# Altium integrated library TI Power Management Step-Down Regulator.IntLib: 565 symbols (part 16 of 33)
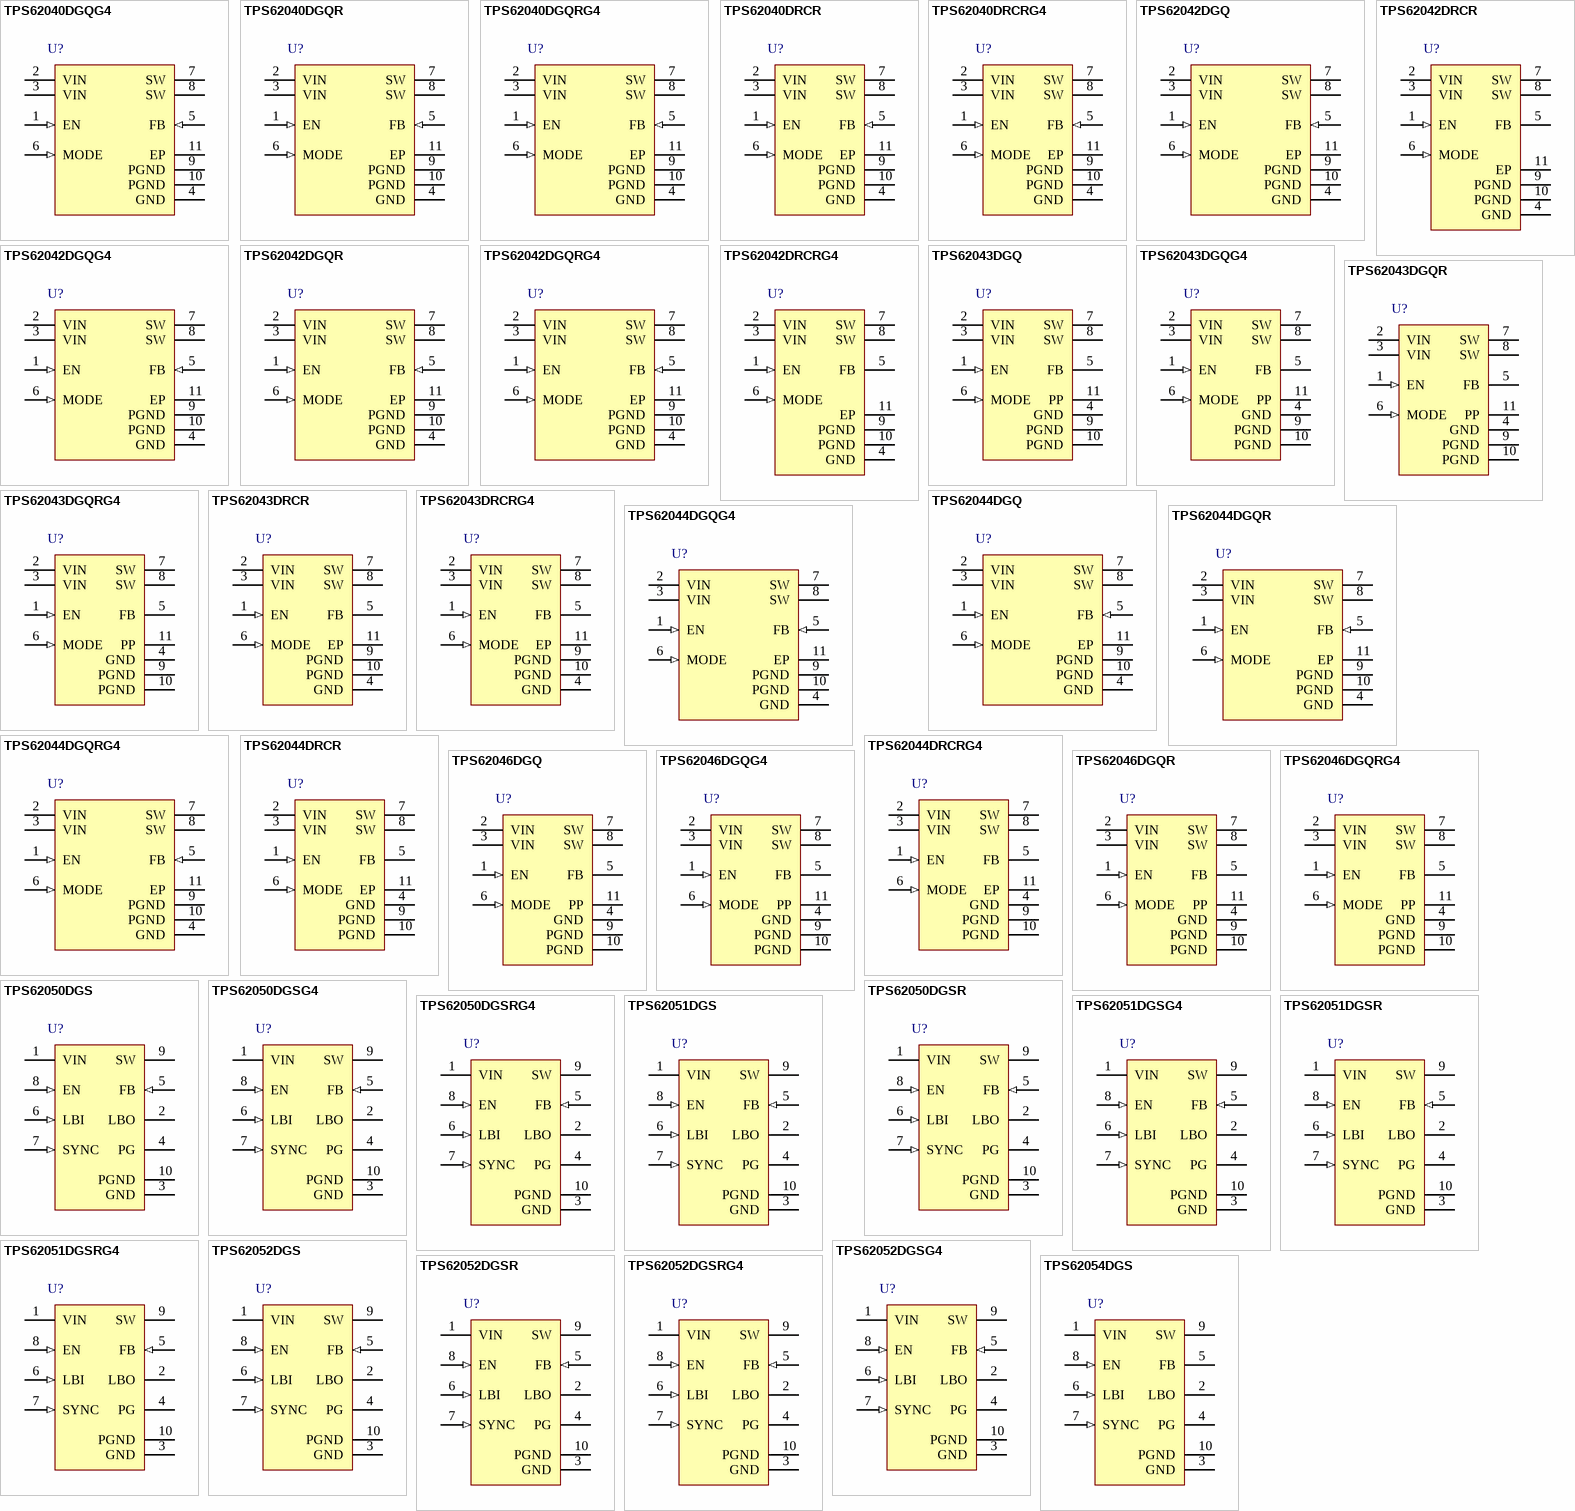
[diagram p34: symbols TPS62040DGQG4 to TPS62054DGS]

## TPS62043DRCR
designator U?
Buck Step Down Regulator with 2.5 to 6 V Input and 1.6 V Output, -40 to 85 degC, 10-Pin SON (DRC), Green (RoHS & no Sb/Br); Manufacturer: Texas Instruments; PartNumber: TPS62043DRCR; Duty Cycle(Max)(%): 100; Iout(Max)(A): 1.2; Iq(Typ)(mA): 0.018; Preset Vout(V): 1.6; Rating: Catalog; Regulated Outputs(#): 1; SubFamily: Step-Down Regulator; Switch Current Limit(Typ)(A): 2; Vin(Max)(V): 6; Vin(Min)(V): 2.5; DatasheetVersion: SLVS463B; PackageVersion: revL, Sep-2011; PackageReference: DRC10-2400X1650TP; PackageDescription: 10-Pin Plastic Small Outline No-Lead, 3 x 3 x 1 mm Body, 0.5 mm Pitch, Exposed Pad; Supplier 1: Digi-Key; Supplier Part Number 1: 296-15900-2-ND; Eco-Plan: Green (RoHS & no Sb/Br); Topology: Buck; Vout(Max)(V): 1.6; Vout(Min)(V): 1.6; Mounting Technology: Surface Mount; ComponentLink1Description: Datasheet; ComponentLink1URL: http://www.ti.com/general/docs/lit/getliterature.tsp?genericPartNumber=TPS62043&fileType=pdf; ComponentLink2Description: Package Specification; ComponentLink2URL: http://www.ti.com/litv/pdf/mpds117k; ComponentLink3Description: URL Link1; ComponentLink3URL: Samples URL:http://www.ti.com/product/tps62043#samples
footprint DRC10-2400X1650TP (SON, 10-Leads, Body 3x3mm, Pitch 0.5mm, Thermal Pad 2.4x1.65mm, TI Recommended)
pins: 1 EN (in) "Enable. Pulling EN to ground forces the device into shutdown mode. Pulling EN to VI enables the device. EN should not be left floating and must be terminated.", 2 VIN (power) "Supply voltage input", 3 VIN (power) "Supply voltage input", 4 GND (power), 5 FB "Feedback pin. Connect FB directly to the output if the fixed output voltage version is used. For the adjustable version an external resistor divider is connected to this pin. The internal voltage divider is disabled for the (See Datasheet)", 6 MODE (in) "Pulling the MODE pin high allows the device to be forced into fixed frequency operation. Pulling the MODE pin to low enables the power save mode where the device operates in fixed frequency PWM mode at high load currents and (See Datasheet)", 7 SW (power) "This is the switch pin of the converter and is connected to the drain of the internal power MOSFETs", 8 SW (power) "This is the switch pin of the converter and is connected to the drain of the internal power MOSFETs", 9 PGND (power) "Power ground", 10 PGND (power) "Power ground", 11 EP "Exposed Thermal Pad"

## TPS62043DRCRG4
designator U?
Buck Step Down Regulator with 2.5 to 6 V Input and 1.6 V Output, -40 to 85 degC, 10-Pin SON (DRC), Green (RoHS & no Sb/Br); Manufacturer: Texas Instruments; PartNumber: TPS62043DRCRG4; Duty Cycle(Max)(%): 100; Iout(Max)(A): 1.2; Iq(Typ)(mA): 0.018; Preset Vout(V): 1.6; Rating: Catalog; Regulated Outputs(#): 1; SubFamily: Step-Down Regulator; Switch Current Limit(Typ)(A): 2; Vin(Max)(V): 6; Vin(Min)(V): 2.5; DatasheetVersion: SLVS463B; PackageVersion: revL, Sep-2011; PackageReference: DRC10-2400X1650TP; PackageDescription: 10-Pin Plastic Small Outline No-Lead, 3 x 3 x 1 mm Body, 0.5 mm Pitch, Exposed Pad; Supplier 1: Digi-Key; Supplier Part Number 1: TPS62043DRCRG4-ND; Eco-Plan: Green (RoHS & no Sb/Br); Topology: Buck; Vout(Max)(V): 1.6; Vout(Min)(V): 1.6; Mounting Technology: Surface Mount; ComponentLink1Description: Datasheet; ComponentLink1URL: http://www.ti.com/general/docs/lit/getliterature.tsp?genericPartNumber=TPS62043&fileType=pdf; ComponentLink2Description: Package Specification; ComponentLink2URL: http://www.ti.com/litv/pdf/mpds117k; ComponentLink3Description: URL Link1; ComponentLink3URL: Samples URL:http://www.ti.com/product/tps54611#samples
footprint DRC10-2400X1650TP (SON, 10-Leads, Body 3x3mm, Pitch 0.5mm, Thermal Pad 2.4x1.65mm, TI Recommended)
pins: 1 EN (in) "Enable. Pulling EN to ground forces the device into shutdown mode. Pulling EN to VI enables the device. EN should not be left floating and must be terminated.", 2 VIN (power) "Supply voltage input", 3 VIN (power) "Supply voltage input", 4 GND (power), 5 FB "Feedback pin. Connect FB directly to the output if the fixed output voltage version is used. For the adjustable version an external resistor divider is connected to this pin. The internal voltage divider is disabled for the (See Datasheet)", 6 MODE (in) "Pulling the MODE pin high allows the device to be forced into fixed frequency operation. Pulling the MODE pin to low enables the power save mode where the device operates in fixed frequency PWM mode at high load currents and (See Datasheet)", 7 SW (power) "This is the switch pin of the converter and is connected to the drain of the internal power MOSFETs", 8 SW (power) "This is the switch pin of the converter and is connected to the drain of the internal power MOSFETs", 9 PGND (power) "Power ground", 10 PGND (power) "Power ground", 11 EP "Exposed Thermal Pad"

## TPS62044DGQ
designator U?
Buck Step Down Regulator with 2.5 to 6 V Input and 1.8 V Output, -40 to 85 degC, 10-Pin MSOP-PowerPAD (DGQ), Green (RoHS & no Sb/Br); Manufacturer: Texas Instruments; PartNumber: TPS62044DGQ; Duty Cycle(Max)(%): 100; Iout(Max)(A): 1.2; Iq(Typ)(mA): 0.018; Preset Vout(V): 1.8; Rating: Catalog; Regulated Outputs(#): 1; SubFamily: Step-Down Regulator; Switch Current Limit(Typ)(A): 2; Vin(Max)(V): 6; Vin(Min)(V): 2.5; DatasheetVersion: SLVS463B; PackageVersion: revF, Nov-2011; PackageReference: DGQ10-1675X1445TP; PackageDescription: 10-Pin PowerPAD Plastic Small Outline 0.5 mm Pitch, Exposed Pad; Supplier 1: Digi-Key; Supplier Part Number 1: 296-34636-5-ND; Eco-Plan: Green (RoHS & no Sb/Br); Topology: Buck; Vout(Max)(V): 1.8; Vout(Min)(V): 1.8; Mounting Technology: Surface Mount; Code_JEDEC: MO-187-BA-T; ComponentLink1Description: Datasheet; ComponentLink1URL: http://www.ti.com/general/docs/lit/getliterature.tsp?genericPartNumber=TPS62044&fileType=pdf; ComponentLink2Description: Package Specification; ComponentLink2URL: http://www.ti.com/lit/ml/mpds043e/mpds043e.pdf; ComponentLink3Description: URL Link1; ComponentLink3URL: Samples URL:http://www.ti.com/product/tps62044#samples
footprint DGQ10-1675X1445TP_N (TSSOP, 10-Leads, Body 3x3mm, Pitch 0.5mm, Thermal Pad 1.88x1.57mm, IPC Medium Density)
footprint DGQ10-1675X1445TP_L (TSSOP, 10-Leads, Body 3x3mm, Pitch 0.5mm, Thermal Pad 1.88x1.57mm, IPC High Density)
footprint DGQ10-1675X1445TP_M (TSSOP, 10-Leads, Body 3x3mm, Pitch 0.5mm, Thermal Pad 1.88x1.57mm, IPC Low Density)
pins: 1 EN (in) "Enable. Pulling EN to ground forces the device into shutdown mode. Pulling EN to VI enables the device. EN should not be left floating and must be terminated.", 2 VIN (power) "Supply voltage input", 3 VIN (power) "Supply voltage input", 4 GND (power) "Analog ground", 5 FB (in) "Feedback pin. Connect FB directly to the output if the fixed output voltage version is used. For the adjustable version an external resistor divider is connected to this pin. The internal voltage divider is disabled for the (See Datasheet)", 6 MODE (in) "Pulling the MODE pin high allows the device to be forced into fixed frequency operation. Pulling the MODE pin to low enables the power save mode where the device operates in fixed frequency PWM mode at high load currents and (See Datasheet)", 7 SW (power) "This is the switch pin of the converter and is connected to the drain of the internal power MOSFETs", 8 SW (power) "This is the switch pin of the converter and is connected to the drain of the internal power MOSFETs", 9 PGND (power) "Power ground", 10 PGND (power) "Power ground", 11 EP (power) "Exposed Thermal Pad"

## TPS62044DGQG4
designator U?
Buck Step Down Regulator with 2.5 to 6 V Input and 1.8 V Output, -40 to 85 degC, 10-Pin MSOP-PowerPAD (DGQ), Green (RoHS & no Sb/Br); Manufacturer: Texas Instruments; PartNumber: TPS62044DGQG4; Duty Cycle(Max)(%): 100; Iout(Max)(A): 1.2; Iq(Typ)(mA): 0.018; Preset Vout(V): 1.8; Rating: Catalog; Regulated Outputs(#): 1; SubFamily: Step-Down Regulator; Switch Current Limit(Typ)(A): 2; Vin(Max)(V): 6; Vin(Min)(V): 2.5; DatasheetVersion: SLVS463B; PackageVersion: revF, Nov-2011; PackageReference: DGQ10-1675X1445TP; PackageDescription: 10-Pin PowerPAD Plastic Small Outline 0.5 mm Pitch, Exposed Pad; Supplier 1: Digi-Key; Supplier Part Number 1: TPS62044DGQG4-ND; Eco-Plan: Green (RoHS & no Sb/Br); Topology: Buck; Vout(Max)(V): 1.8; Vout(Min)(V): 1.8; Mounting Technology: Surface Mount; Code_JEDEC: MO-187-BA-T; ComponentLink1Description: Datasheet; ComponentLink1URL: http://www.ti.com/general/docs/lit/getliterature.tsp?genericPartNumber=TPS62044&fileType=pdf; ComponentLink2Description: Package Specification; ComponentLink2URL: http://www.ti.com/lit/ml/mpds043e/mpds043e.pdf; ComponentLink3Description: URL Link1; ComponentLink3URL: Samples URL:http://www.ti.com/product/tps62044#samples
footprint DGQ10-1675X1445TP_N (TSSOP, 10-Leads, Body 3x3mm, Pitch 0.5mm, Thermal Pad 1.88x1.57mm, IPC Medium Density)
footprint DGQ10-1675X1445TP_L (TSSOP, 10-Leads, Body 3x3mm, Pitch 0.5mm, Thermal Pad 1.88x1.57mm, IPC High Density)
footprint DGQ10-1675X1445TP_M (TSSOP, 10-Leads, Body 3x3mm, Pitch 0.5mm, Thermal Pad 1.88x1.57mm, IPC Low Density)
pins: 1 EN (in) "Enable. Pulling EN to ground forces the device into shutdown mode. Pulling EN to VI enables the device. EN should not be left floating and must be terminated.", 2 VIN (power) "Supply voltage input", 3 VIN (power) "Supply voltage input", 4 GND (power) "Analog ground", 5 FB (in) "Feedback pin. Connect FB directly to the output if the fixed output voltage version is used. For the adjustable version an external resistor divider is connected to this pin. The internal voltage divider is disabled for the (See Datasheet)", 6 MODE (in) "Pulling the MODE pin high allows the device to be forced into fixed frequency operation. Pulling the MODE pin to low enables the power save mode where the device operates in fixed frequency PWM mode at high load currents and (See Datasheet)", 7 SW (power) "This is the switch pin of the converter and is connected to the drain of the internal power MOSFETs", 8 SW (power) "This is the switch pin of the converter and is connected to the drain of the internal power MOSFETs", 9 PGND (power) "Power ground", 10 PGND (power) "Power ground", 11 EP (power) "Exposed Thermal Pad"

## TPS62044DGQR
designator U?
Buck Step Down Regulator with 2.5 to 6 V Input and 1.8 V Output, -40 to 85 degC, 10-Pin MSOP-PowerPAD (DGQ), Green (RoHS & no Sb/Br); Manufacturer: Texas Instruments; PartNumber: TPS62044DGQR; Duty Cycle(Max)(%): 100; Iout(Max)(A): 1.2; Iq(Typ)(mA): 0.018; Preset Vout(V): 1.8; Rating: Catalog; Regulated Outputs(#): 1; SubFamily: Step-Down Regulator; Switch Current Limit(Typ)(A): 2; Vin(Max)(V): 6; Vin(Min)(V): 2.5; DatasheetVersion: SLVS463B; PackageVersion: revF, Nov-2011; PackageReference: DGQ10-1675X1445TP; PackageDescription: 10-Pin PowerPAD Plastic Small Outline 0.5 mm Pitch, Exposed Pad; Supplier 1: Digi-Key; Supplier Part Number 1: 296-15222-2-ND; Eco-Plan: Green (RoHS & no Sb/Br); Topology: Buck; Vout(Max)(V): 1.8; Vout(Min)(V): 1.8; Mounting Technology: Surface Mount; Code_JEDEC: MO-187-BA-T; ComponentLink1Description: Datasheet; ComponentLink1URL: http://www.ti.com/general/docs/lit/getliterature.tsp?genericPartNumber=TPS62044&fileType=pdf; ComponentLink2Description: Package Specification; ComponentLink2URL: http://www.ti.com/lit/ml/mpds043e/mpds043e.pdf; ComponentLink3Description: URL Link1; ComponentLink3URL: Samples URL:http://www.ti.com/product/tps62044#samples
footprint DGQ10-1675X1445TP_N (TSSOP, 10-Leads, Body 3x3mm, Pitch 0.5mm, Thermal Pad 1.88x1.57mm, IPC Medium Density)
footprint DGQ10-1675X1445TP_L (TSSOP, 10-Leads, Body 3x3mm, Pitch 0.5mm, Thermal Pad 1.88x1.57mm, IPC High Density)
footprint DGQ10-1675X1445TP_M (TSSOP, 10-Leads, Body 3x3mm, Pitch 0.5mm, Thermal Pad 1.88x1.57mm, IPC Low Density)
pins: 1 EN (in) "Enable. Pulling EN to ground forces the device into shutdown mode. Pulling EN to VI enables the device. EN should not be left floating and must be terminated.", 2 VIN (power) "Supply voltage input", 3 VIN (power) "Supply voltage input", 4 GND (power) "Analog ground", 5 FB (in) "Feedback pin. Connect FB directly to the output if the fixed output voltage version is used. For the adjustable version an external resistor divider is connected to this pin. The internal voltage divider is disabled for the (See Datasheet)", 6 MODE (in) "Pulling the MODE pin high allows the device to be forced into fixed frequency operation. Pulling the MODE pin to low enables the power save mode where the device operates in fixed frequency PWM mode at high load currents and (See Datasheet)", 7 SW (power) "This is the switch pin of the converter and is connected to the drain of the internal power MOSFETs", 8 SW (power) "This is the switch pin of the converter and is connected to the drain of the internal power MOSFETs", 9 PGND (power) "Power ground", 10 PGND (power) "Power ground", 11 EP (power) "Exposed Thermal Pad"

## TPS62044DGQRG4
designator U?
Buck Step Down Regulator with 2.5 to 6 V Input and 1.8 V Output, -40 to 85 degC, 10-Pin MSOP-PowerPAD (DGQ), Green (RoHS & no Sb/Br); Manufacturer: Texas Instruments; PartNumber: TPS62044DGQRG4; Duty Cycle(Max)(%): 100; Iout(Max)(A): 1.2; Iq(Typ)(mA): 0.018; Preset Vout(V): 1.8; Rating: Catalog; Regulated Outputs(#): 1; SubFamily: Step-Down Regulator; Switch Current Limit(Typ)(A): 2; Vin(Max)(V): 6; Vin(Min)(V): 2.5; DatasheetVersion: SLVS463B; PackageVersion: revF, Nov-2011; PackageReference: DGQ10-1675X1445TP; PackageDescription: 10-Pin PowerPAD Plastic Small Outline 0.5 mm Pitch, Exposed Pad; Supplier 1: Digi-Key; Supplier Part Number 1: TPS62044DGQRG4-ND; Eco-Plan: Green (RoHS & no Sb/Br); Topology: Buck; Vout(Max)(V): 1.8; Vout(Min)(V): 1.8; Mounting Technology: Surface Mount; Code_JEDEC: MO-187-BA-T; ComponentLink1Description: Datasheet; ComponentLink1URL: http://www.ti.com/general/docs/lit/getliterature.tsp?genericPartNumber=TPS62044&fileType=pdf; ComponentLink2Description: Package Specification; ComponentLink2URL: http://www.ti.com/lit/ml/mpds043e/mpds043e.pdf; ComponentLink3Description: URL Link1; ComponentLink3URL: Samples URL:http://www.ti.com/product/tps62044#samples
footprint DGQ10-1675X1445TP_N (TSSOP, 10-Leads, Body 3x3mm, Pitch 0.5mm, Thermal Pad 1.88x1.57mm, IPC Medium Density)
footprint DGQ10-1675X1445TP_L (TSSOP, 10-Leads, Body 3x3mm, Pitch 0.5mm, Thermal Pad 1.88x1.57mm, IPC High Density)
footprint DGQ10-1675X1445TP_M (TSSOP, 10-Leads, Body 3x3mm, Pitch 0.5mm, Thermal Pad 1.88x1.57mm, IPC Low Density)
pins: 1 EN (in) "Enable. Pulling EN to ground forces the device into shutdown mode. Pulling EN to VI enables the device. EN should not be left floating and must be terminated.", 2 VIN (power) "Supply voltage input", 3 VIN (power) "Supply voltage input", 4 GND (power) "Analog ground", 5 FB (in) "Feedback pin. Connect FB directly to the output if the fixed output voltage version is used. For the adjustable version an external resistor divider is connected to this pin. The internal voltage divider is disabled for the (See Datasheet)", 6 MODE (in) "Pulling the MODE pin high allows the device to be forced into fixed frequency operation. Pulling the MODE pin to low enables the power save mode where the device operates in fixed frequency PWM mode at high load currents and (See Datasheet)", 7 SW (power) "This is the switch pin of the converter and is connected to the drain of the internal power MOSFETs", 8 SW (power) "This is the switch pin of the converter and is connected to the drain of the internal power MOSFETs", 9 PGND (power) "Power ground", 10 PGND (power) "Power ground", 11 EP (power) "Exposed Thermal Pad"

## TPS62044DRCR
designator U?
Buck Step Down Regulator with 2.5 to 6 V Input and 1.8 V Output, -40 to 85 degC, 10-Pin SON (DRC), Green (RoHS & no Sb/Br); Manufacturer: Texas Instruments; PartNumber: TPS62044DRCR; Duty Cycle(Max)(%): 100; Iout(Max)(A): 1.2; Iq(Typ)(mA): 0.018; Preset Vout(V): 1.8; Rating: Catalog; Regulated Outputs(#): 1; SubFamily: Step-Down Regulator; Switch Current Limit(Typ)(A): 2; Vin(Max)(V): 6; Vin(Min)(V): 2.5; DatasheetVersion: SLVS463B; PackageVersion: revL, Sep-2011; PackageReference: DRC10-2400X1650TP; PackageDescription: 10-Pin Plastic Small Outline No-Lead, 3 x 3 x 1 mm Body, 0.5 mm Pitch, Exposed Pad; Supplier 1: Digi-Key; Supplier Part Number 1: 296-15901-2-ND; Eco-Plan: Green (RoHS & no Sb/Br); Topology: Buck; Vout(Max)(V): 1.8; Vout(Min)(V): 1.8; Mounting Technology: Surface Mount; ComponentLink1Description: Datasheet; ComponentLink1URL: http://www.ti.com/general/docs/lit/getliterature.tsp?genericPartNumber=TPS62044&fileType=pdf; ComponentLink2Description: Package Specification; ComponentLink2URL: http://www.ti.com/litv/pdf/mpds117k; ComponentLink3Description: URL Link1; ComponentLink3URL: Samples URL:http://www.ti.com/product/tps62044#samples
footprint DRC10-2400X1650TP (SON, 10-Leads, Body 3x3mm, Pitch 0.5mm, Thermal Pad 2.4x1.65mm, TI Recommended)
pins: 1 EN (in) "Enable. Pulling EN to ground forces the device into shutdown mode. Pulling EN to VI enables the device. EN should not be left floating and must be terminated.", 2 VIN (power) "Supply voltage input.", 3 VIN (power) "Supply voltage input.", 4 GND (power) "Analog ground", 5 FB "Feedback pin. Connect FB directly to the output if the fixed output voltage version is used. For the adjustable version an external resistor divider is connected to this pin. The internal voltage divider is disabled for the (See Datasheet)", 6 MODE (in) "Pulling the MODE pin high allows the device to be forced into fixed frequency operation. Pulling the MODE pin to low enables the power save mode where the device operates in fixed frequency PWM mode at high load currents and (See Datasheet)", 7 SW (power) "This is the switch pin of the converter and is connected to the drain of the internal power MOSFETs.", 8 SW (power) "This is the switch pin of the converter and is connected to the drain of the internal power MOSFETs.", 9 PGND (power) "Power ground.", 10 PGND (power) "Power ground.", 11 EP "Exposed thermal pad"

## TPS62044DRCRG4
designator U?
Buck Step Down Regulator with 2.5 to 6 V Input and 1.8 V Output, -40 to 85 degC, 10-Pin SON (DRC), Green (RoHS & no Sb/Br); Manufacturer: Texas Instruments; PartNumber: TPS62044DRCRG4; Duty Cycle(Max)(%): 100; Iout(Max)(A): 1.2; Iq(Typ)(mA): 0.018; Preset Vout(V): 1.8; Rating: Catalog; Regulated Outputs(#): 1; SubFamily: Step-Down Regulator; Switch Current Limit(Typ)(A): 2; Vin(Max)(V): 6; Vin(Min)(V): 2.5; DatasheetVersion: SLVS463B; PackageVersion: revL, Sep-2011; PackageReference: DRC10-2400X1650TP; PackageDescription: 10-Pin Plastic Small Outline No-Lead, 3 x 3 x 1 mm Body, 0.5 mm Pitch, Exposed Pad; Supplier 1: Digi-Key; Supplier Part Number 1: TPS62044DRCRG4-ND; Eco-Plan: Green (RoHS & no Sb/Br); Topology: Buck; Vout(Max)(V): 1.8; Vout(Min)(V): 1.8; Mounting Technology: Surface Mount; ComponentLink1Description: Datasheet; ComponentLink1URL: http://www.ti.com/general/docs/lit/getliterature.tsp?genericPartNumber=TPS62044&fileType=pdf; ComponentLink2Description: Package Specification; ComponentLink2URL: http://www.ti.com/litv/pdf/mpds117k; ComponentLink3Description: URL Link1; ComponentLink3URL: Samples URL:http://www.ti.com/product/tps54611#samples
footprint DRC10-2400X1650TP (SON, 10-Leads, Body 3x3mm, Pitch 0.5mm, Thermal Pad 2.4x1.65mm, TI Recommended)
pins: 1 EN (in) "Enable. Pulling EN to ground forces the device into shutdown mode. Pulling EN to VI enables the device. EN should not be left floating and must be terminated.", 2 VIN (power) "Supply voltage input.", 3 VIN (power) "Supply voltage input.", 4 GND (power) "Analog ground", 5 FB "Feedback pin. Connect FB directly to the output if the fixed output voltage version is used. For the adjustable version an external resistor divider is connected to this pin. The internal voltage divider is disabled for the (See Datasheet)", 6 MODE (in) "Pulling the MODE pin high allows the device to be forced into fixed frequency operation. Pulling the MODE pin to low enables the power save mode where the device operates in fixed frequency PWM mode at high load currents and (See Datasheet)", 7 SW (power) "This is the switch pin of the converter and is connected to the drain of the internal power MOSFETs.", 8 SW (power) "This is the switch pin of the converter and is connected to the drain of the internal power MOSFETs.", 9 PGND (power) "Power ground.", 10 PGND (power) "Power ground.", 11 EP "Exposed thermal pad"

## TPS62046DGQ
designator U?
Buck Step Down Regulator with 2.5 to 6 V Input and 3.3 V Output, -40 to 85 degC, 10-Pin MSOP-PowerPAD (DGQ), Green (RoHS & no Sb/Br); Manufacturer: Texas Instruments; PartNumber: TPS62046DGQ; Duty Cycle(Max)(%): 100; Iout(Max)(A): 1.2; Iq(Typ)(mA): 0.018; Preset Vout(V): 3.3; Rating: Catalog; Regulated Outputs(#): 1; SubFamily: Step-Down Regulator; Switch Current Limit(Typ)(A): 2; Synchronous Rectification: TRUE; Vin(Max)(V): 6; Vin(Min)(V): 2.5; DatasheetVersion: SLVS463B; PackageVersion: revF, Nov-2011; PackageReference: DGQ10-1675X1445TP; PackageDescription: 10-Pin PowerPAD Plastic Small Outline 0.5 mm Pitch, Exposed Pad; Supplier 1: Digi-Key; Supplier Part Number 1: 296-27023-5-ND; Eco-Plan: Green (RoHS & no Sb/Br); Topology: Buck; Vout(Max)(V): 3.3; Vout(Min)(V): 3.3; Mounting Technology: Surface Mount; Code_JEDEC: MO-187-BA-T; ComponentLink1Description: Datasheet; ComponentLink1URL: http://www.ti.com/general/docs/lit/getliterature.tsp?genericPartNumber=TPS62046&fileType=pdf; ComponentLink2Description: Package Specification; ComponentLink2URL: http://www.ti.com/lit/ml/mpds043e/mpds043e.pdf; ComponentLink3Description: URL Link1; ComponentLink3URL: Samples URL:http://www.ti.com/product/tps62046#samples
footprint DGQ10-1675X1445TP_N (TSSOP, 10-Leads, Body 3x3mm, Pitch 0.5mm, Thermal Pad 1.88x1.57mm, IPC Medium Density)
footprint DGQ10-1675X1445TP_L (TSSOP, 10-Leads, Body 3x3mm, Pitch 0.5mm, Thermal Pad 1.88x1.57mm, IPC High Density)
footprint DGQ10-1675X1445TP_M (TSSOP, 10-Leads, Body 3x3mm, Pitch 0.5mm, Thermal Pad 1.88x1.57mm, IPC Low Density)
pins: 1 EN (in) "Enable. Pulling EN to ground forces the device into shutdown mode. Pulling EN to VI enables the device. EN should not be left floating and must be terminated.", 2 VIN (power) "Supply voltage input", 3 VIN (power) "Supply voltage input", 4 GND (power) "Analog ground", 5 FB "Feedback pin. Connect FB directly to the output if the fixed output voltage version is used. For the adjustable version an external resistor divider is connected to this pin. The internal voltage divider is disabled for the (See Datasheet)", 6 MODE (in) "Pulling the MODE pin high allows the device to be forced into fixed frequency operation. Pulling the MODE pin to low enables the power save mode where the device operates in fixed frequency PWM mode at high load currents and (See Datasheet)", 7 SW (power) "This is the switch pin of the converter and connected to the drain of the internal power MOSFETs", 8 SW (power) "This is the switch pin of the converter and connected to the drain of the internal power MOSFETs", 9 PGND (power) "Power ground", 10 PGND (power) "Power ground", 11 PP (power) "Exposed Thermal Pad"

## TPS62046DGQG4
designator U?
Buck Step Down Regulator with 2.5 to 6 V Input and 3.3 V Output, -40 to 85 degC, 10-Pin MSOP-PowerPAD (DGQ), Green (RoHS & no Sb/Br); Manufacturer: Texas Instruments; PartNumber: TPS62046DGQG4; Duty Cycle(Max)(%): 100; Iout(Max)(A): 1.2; Iq(Typ)(mA): 0.018; Preset Vout(V): 3.3; Rating: Catalog; Regulated Outputs(#): 1; SubFamily: Step-Down Regulator; Switch Current Limit(Typ)(A): 2; Synchronous Rectification: TRUE; Vin(Max)(V): 6; Vin(Min)(V): 2.5; DatasheetVersion: SLVS463B; PackageVersion: revF, Nov-2011; PackageReference: DGQ10-1675X1445TP; PackageDescription: 10-Pin PowerPAD Plastic Small Outline 0.5 mm Pitch, Exposed Pad; Supplier 1: Digi-Key; Supplier Part Number 1: TPS62046DGQG4-ND; Eco-Plan: Green (RoHS & no Sb/Br); Topology: Buck; Vout(Max)(V): 3.3; Vout(Min)(V): 3.3; Mounting Technology: Surface Mount; Code_JEDEC: MO-187-BA-T; ComponentLink1Description: Datasheet; ComponentLink1URL: http://www.ti.com/general/docs/lit/getliterature.tsp?genericPartNumber=TPS62046&fileType=pdf; ComponentLink2Description: Package Specification; ComponentLink2URL: http://www.ti.com/lit/ml/mpds043e/mpds043e.pdf; ComponentLink3Description: URL Link1; ComponentLink3URL: Samples URL:http://www.ti.com/product/tps62046#samples
footprint DGQ10-1675X1445TP_N (TSSOP, 10-Leads, Body 3x3mm, Pitch 0.5mm, Thermal Pad 1.88x1.57mm, IPC Medium Density)
footprint DGQ10-1675X1445TP_L (TSSOP, 10-Leads, Body 3x3mm, Pitch 0.5mm, Thermal Pad 1.88x1.57mm, IPC High Density)
footprint DGQ10-1675X1445TP_M (TSSOP, 10-Leads, Body 3x3mm, Pitch 0.5mm, Thermal Pad 1.88x1.57mm, IPC Low Density)
pins: 1 EN (in) "Enable. Pulling EN to ground forces the device into shutdown mode. Pulling EN to VI enables the device. EN should not be left floating and must be terminated.", 2 VIN (power) "Supply voltage input", 3 VIN (power) "Supply voltage input", 4 GND (power) "Analog ground", 5 FB "Feedback pin. Connect FB directly to the output if the fixed output voltage version is used. For the adjustable version an external resistor divider is connected to this pin. The internal voltage divider is disabled for the (See Datasheet)", 6 MODE (in) "Pulling the MODE pin high allows the device to be forced into fixed frequency operation. Pulling the MODE pin to low enables the power save mode where the device operates in fixed frequency PWM mode at high load currents and (See Datasheet)", 7 SW (power) "This is the switch pin of the converter and connected to the drain of the internal power MOSFETs", 8 SW (power) "This is the switch pin of the converter and connected to the drain of the internal power MOSFETs", 9 PGND (power) "Power ground", 10 PGND (power) "Power ground", 11 PP (power) "Exposed Thermal Pad"

## TPS62046DGQR
designator U?
Buck Step Down Regulator with 2.5 to 6 V Input and 3.3 V Output, -40 to 85 degC, 10-Pin MSOP-PowerPAD (DGQ), Green (RoHS & no Sb/Br); Manufacturer: Texas Instruments; PartNumber: TPS62046DGQR; Duty Cycle(Max)(%): 100; Iout(Max)(A): 1.2; Iq(Typ)(mA): 0.018; Preset Vout(V): 3.3; Rating: Catalog; Regulated Outputs(#): 1; SubFamily: Step-Down Regulator; Switch Current Limit(Typ)(A): 2; Synchronous Rectification: TRUE; Vin(Max)(V): 6; Vin(Min)(V): 2.5; DatasheetVersion: SLVS463B; PackageVersion: revF, Nov-2011; PackageReference: DGQ10-1675X1445TP; PackageDescription: 10-Pin PowerPAD Plastic Small Outline 0.5 mm Pitch, Exposed Pad; Supplier 1: Digi-Key; Supplier Part Number 1: 296-15223-2-ND; Eco-Plan: Green (RoHS & no Sb/Br); Topology: Buck; Vout(Max)(V): 3.3; Vout(Min)(V): 3.3; Mounting Technology: Surface Mount; Code_JEDEC: MO-187-BA-T; ComponentLink1Description: Datasheet; ComponentLink1URL: http://www.ti.com/general/docs/lit/getliterature.tsp?genericPartNumber=TPS62046&fileType=pdf; ComponentLink2Description: Package Specification; ComponentLink2URL: http://www.ti.com/lit/ml/mpds043e/mpds043e.pdf; ComponentLink3Description: URL Link1; ComponentLink3URL: Samples URL:http://www.ti.com/product/tps62046#samples
footprint DGQ10-1675X1445TP_N (TSSOP, 10-Leads, Body 3x3mm, Pitch 0.5mm, Thermal Pad 1.88x1.57mm, IPC Medium Density)
footprint DGQ10-1675X1445TP_L (TSSOP, 10-Leads, Body 3x3mm, Pitch 0.5mm, Thermal Pad 1.88x1.57mm, IPC High Density)
footprint DGQ10-1675X1445TP_M (TSSOP, 10-Leads, Body 3x3mm, Pitch 0.5mm, Thermal Pad 1.88x1.57mm, IPC Low Density)
pins: 1 EN (in) "Enable. Pulling EN to ground forces the device into shutdown mode. Pulling EN to VI enables the device. EN should not be left floating and must be terminated.", 2 VIN (power) "Supply voltage input", 3 VIN (power) "Supply voltage input", 4 GND (power) "Analog ground", 5 FB "Feedback pin. Connect FB directly to the output if the fixed output voltage version is used. For the adjustable version an external resistor divider is connected to this pin. The internal voltage divider is disabled for the (See Datasheet)", 6 MODE (in) "Pulling the MODE pin high allows the device to be forced into fixed frequency operation. Pulling the MODE pin to low enables the power save mode where the device operates in fixed frequency PWM mode at high load currents and (See Datasheet)", 7 SW (power) "This is the switch pin of the converter and connected to the drain of the internal power MOSFETs", 8 SW (power) "This is the switch pin of the converter and connected to the drain of the internal power MOSFETs", 9 PGND (power) "Power ground", 10 PGND (power) "Power ground", 11 PP (power) "Exposed Thermal Pad"

## TPS62046DGQRG4
designator U?
Buck Step Down Regulator with 2.5 to 6 V Input and 3.3 V Output, -40 to 85 degC, 10-Pin MSOP-PowerPAD (DGQ), Green (RoHS & no Sb/Br); Manufacturer: Texas Instruments; PartNumber: TPS62046DGQRG4; Duty Cycle(Max)(%): 100; Iout(Max)(A): 1.2; Iq(Typ)(mA): 0.018; Preset Vout(V): 3.3; Rating: Catalog; Regulated Outputs(#): 1; SubFamily: Step-Down Regulator; Switch Current Limit(Typ)(A): 2; Synchronous Rectification: TRUE; Vin(Max)(V): 6; Vin(Min)(V): 2.5; DatasheetVersion: SLVS463B; PackageVersion: revF, Nov-2011; PackageReference: DGQ10-1675X1445TP; PackageDescription: 10-Pin PowerPAD Plastic Small Outline 0.5 mm Pitch, Exposed Pad; Supplier 1: Digi-Key; Supplier Part Number 1: TPS62046DGQRG4-ND; Eco-Plan: Green (RoHS & no Sb/Br); Topology: Buck; Vout(Max)(V): 3.3; Vout(Min)(V): 3.3; Mounting Technology: Surface Mount; Code_JEDEC: MO-187-BA-T; ComponentLink1Description: Datasheet; ComponentLink1URL: http://www.ti.com/general/docs/lit/getliterature.tsp?genericPartNumber=TPS62046&fileType=pdf; ComponentLink2Description: Package Specification; ComponentLink2URL: http://www.ti.com/lit/ml/mpds043e/mpds043e.pdf; ComponentLink3Description: URL Link1; ComponentLink3URL: Samples URL:http://www.ti.com/product/tps62046#samples
footprint DGQ10-1675X1445TP_N (TSSOP, 10-Leads, Body 3x3mm, Pitch 0.5mm, Thermal Pad 1.88x1.57mm, IPC Medium Density)
footprint DGQ10-1675X1445TP_L (TSSOP, 10-Leads, Body 3x3mm, Pitch 0.5mm, Thermal Pad 1.88x1.57mm, IPC High Density)
footprint DGQ10-1675X1445TP_M (TSSOP, 10-Leads, Body 3x3mm, Pitch 0.5mm, Thermal Pad 1.88x1.57mm, IPC Low Density)
pins: 1 EN (in) "Enable. Pulling EN to ground forces the device into shutdown mode. Pulling EN to VI enables the device. EN should not be left floating and must be terminated.", 2 VIN (power) "Supply voltage input", 3 VIN (power) "Supply voltage input", 4 GND (power) "Analog ground", 5 FB "Feedback pin. Connect FB directly to the output if the fixed output voltage version is used. For the adjustable version an external resistor divider is connected to this pin. The internal voltage divider is disabled for the (See Datasheet)", 6 MODE (in) "Pulling the MODE pin high allows the device to be forced into fixed frequency operation. Pulling the MODE pin to low enables the power save mode where the device operates in fixed frequency PWM mode at high load currents and (See Datasheet)", 7 SW (power) "This is the switch pin of the converter and connected to the drain of the internal power MOSFETs", 8 SW (power) "This is the switch pin of the converter and connected to the drain of the internal power MOSFETs", 9 PGND (power) "Power ground", 10 PGND (power) "Power ground", 11 PP (power) "Exposed Thermal Pad"

## TPS62050DGS
designator U?
Buck Adjustable Regulator with 2.7 to 10 V Input and 0.7 to 6 V Output, -40 to 85 degC, 10-Pin MSOP (DGS), Green (RoHS & no Sb/Br); Manufacturer: Texas Instruments; PartNumber: TPS62050DGS; Duty Cycle(Max)(%): 100; Iout(Max)(A): 0.8; Iq(Typ)(mA): 0.012; Rating: Catalog; Regulated Outputs(#): 1; SubFamily: Step-Down Regulator; Switch Current Limit(Typ)(A): 1.4; Synchronous Rectification: TRUE; Vin(Max)(V): 10; Vin(Min)(V): 2.7; Vout(Max)(V): 6; Vout(Min)(V): 0.7; DatasheetVersion: SLVS432E; PackageVersion: revC, Feb-2004; PackageReference: DGS10; PackageDescription: 10-Pin Thin Shrink Small Outline Package 0.5 mm Pitch; Supplier 1: Digi-Key; Supplier Part Number 1: 296-14208-5-ND; Eco-Plan: Green (RoHS & no Sb/Br); Topology: Buck; Mounting Technology: Surface Mount; Code_JEDEC: MO-187-BA; ComponentLink1Description: Datasheet; ComponentLink1URL: http://www.ti.com/general/docs/lit/getliterature.tsp?genericPartNumber=TPS62050&fileType=pdf; ComponentLink2Description: Package Specification; ComponentLink2URL: http://www.ti.com/litv/pdf/mpds373; ComponentLink3Description: URL Link1; ComponentLink3URL: Samples URL:http://www.ti.com/product/tps62050#samples
footprint DGS10_N (TSSOP, 10-Leads, Body 3x3mm, Pitch 0.5mm, IPC Medium Density)
footprint DGS10_L (TSSOP, 10-Leads, Body 3x3mm, Pitch 0.5mm, IPC High Density)
footprint DGS10_M (TSSOP, 10-Leads, Body 3x3mm, Pitch 0.5mm, IPC Low Density)
pins: 1 VIN (power) "Supply voltage input", 2 LBO (hiz) "Open drain low battery output. Logic low signal indicates a low battery voltage.", 3 GND (power) "Ground", 4 PG (oc) "Power good comparator output. This is an open-drain output. A pullup resistor should be connected between PG and VOUT. The output floats when the output voltage is greater than 95% of the nominal value.", 5 FB (in) "Feedback pin for the fixed output voltage option. For the adjustable version, an external resistive divider is connected to this pin. The internal voltage divider is disabled for the adjustable version.", 6 LBI (in) "Low battery input", 7 SYNC (in) "Input for synchronization to the external clock signal. This input can be connected to an external clock or pulled to GND or VI . When an external clock signal is applied, the device synchronizes to this external clock and (See Datasheet)", 8 EN (in) "Enable. A logic high enables the converter, logic low forces the device into shutdown mode, reducing the supply current to less than 2 µA.", 9 SW (power) "Connect the inductor to this pin. This pin is the switch pin and connected to the drain of the internal power MOSFETS.", 10 PGND (power) "Power ground. Connect all power grounds to this pin."

## TPS62050DGSG4
designator U?
Buck Adjustable Regulator with 2.7 to 10 V Input and 0.7 to 6 V Output, -40 to 85 degC, 10-Pin MSOP (DGS), Green (RoHS & no Sb/Br); Manufacturer: Texas Instruments; PartNumber: TPS62050DGSG4; Duty Cycle(Max)(%): 100; Iout(Max)(A): 0.8; Iq(Typ)(mA): 0.012; Rating: Catalog; Regulated Outputs(#): 1; SubFamily: Step-Down Regulator; Switch Current Limit(Typ)(A): 1.4; Synchronous Rectification: TRUE; Vin(Max)(V): 10; Vin(Min)(V): 2.7; Vout(Max)(V): 6; Vout(Min)(V): 0.7; DatasheetVersion: SLVS432E; PackageVersion: revC, Feb-2004; PackageReference: DGS10; PackageDescription: 10-Pin Thin Shrink Small Outline Package 0.5 mm Pitch; Supplier 1: Digi-Key; Supplier Part Number 1: TPS62050DGSG4-ND; Eco-Plan: Green (RoHS & no Sb/Br); Topology: Buck; Mounting Technology: Surface Mount; Code_JEDEC: MO-187-BA; ComponentLink1Description: Datasheet; ComponentLink1URL: http://www.ti.com/general/docs/lit/getliterature.tsp?genericPartNumber=TPS62050&fileType=pdf; ComponentLink2Description: Package Specification; ComponentLink2URL: http://www.ti.com/litv/pdf/mpds373; ComponentLink3Description: URL Link1; ComponentLink3URL: Samples URL:http://www.ti.com/product/tps62050#samples
footprint DGS10_N (TSSOP, 10-Leads, Body 3x3mm, Pitch 0.5mm, IPC Medium Density)
footprint DGS10_L (TSSOP, 10-Leads, Body 3x3mm, Pitch 0.5mm, IPC High Density)
footprint DGS10_M (TSSOP, 10-Leads, Body 3x3mm, Pitch 0.5mm, IPC Low Density)
pins: 1 VIN (power) "Supply voltage input", 2 LBO (hiz) "Open drain low battery output. Logic low signal indicates a low battery voltage.", 3 GND (power) "Ground", 4 PG (oc) "Power good comparator output. This is an open-drain output. A pullup resistor should be connected between PG and VOUT. The output floats when the output voltage is greater than 95% of the nominal value.", 5 FB (in) "Feedback pin for the fixed output voltage option. For the adjustable version, an external resistive divider is connected to this pin. The internal voltage divider is disabled for the adjustable version.", 6 LBI (in) "Low battery input", 7 SYNC (in) "Input for synchronization to the external clock signal. This input can be connected to an external clock or pulled to GND or VI . When an external clock signal is applied, the device synchronizes to this external clock and (See Datasheet)", 8 EN (in) "Enable. A logic high enables the converter, logic low forces the device into shutdown mode, reducing the supply current to less than 2 µA.", 9 SW (power) "Connect the inductor to this pin. This pin is the switch pin and connected to the drain of the internal power MOSFETS.", 10 PGND (power) "Power ground. Connect all power grounds to this pin."

## TPS62050DGSR
designator U?
Buck Adjustable Regulator with 2.7 to 10 V Input and 0.7 to 6 V Output, -40 to 85 degC, 10-Pin MSOP (DGS), Green (RoHS & no Sb/Br); Manufacturer: Texas Instruments; PartNumber: TPS62050DGSR; Duty Cycle(Max)(%): 100; Iout(Max)(A): 0.8; Iq(Typ)(mA): 0.012; Rating: Catalog; Regulated Outputs(#): 1; SubFamily: Step-Down Regulator; Switch Current Limit(Typ)(A): 1.4; Synchronous Rectification: TRUE; Vin(Max)(V): 10; Vin(Min)(V): 2.7; Vout(Max)(V): 6; Vout(Min)(V): 0.7; DatasheetVersion: SLVS432E; PackageVersion: revC, Feb-2004; PackageReference: DGS10; PackageDescription: 10-Pin Thin Shrink Small Outline Package 0.5 mm Pitch; Supplier 1: Digi-Key; Supplier Part Number 1: 296-14392-2-ND; Eco-Plan: Green (RoHS & no Sb/Br); Topology: Buck; Mounting Technology: Surface Mount; Code_JEDEC: MO-187-BA; ComponentLink1Description: Datasheet; ComponentLink1URL: http://www.ti.com/general/docs/lit/getliterature.tsp?genericPartNumber=TPS62050&fileType=pdf; ComponentLink2Description: Package Specification; ComponentLink2URL: http://www.ti.com/litv/pdf/mpds373; ComponentLink3Description: URL Link1; ComponentLink3URL: Samples URL:http://www.ti.com/product/tps62050#samples
footprint DGS10_N (TSSOP, 10-Leads, Body 3x3mm, Pitch 0.5mm, IPC Medium Density)
footprint DGS10_L (TSSOP, 10-Leads, Body 3x3mm, Pitch 0.5mm, IPC High Density)
footprint DGS10_M (TSSOP, 10-Leads, Body 3x3mm, Pitch 0.5mm, IPC Low Density)
pins: 1 VIN (power) "Supply voltage input", 2 LBO (hiz) "Open drain low battery output. Logic low signal indicates a low battery voltage.", 3 GND (power) "Ground", 4 PG (oc) "Power good comparator output. This is an open-drain output. A pullup resistor should be connected between PG and VOUT. The output floats when the output voltage is greater than 95% of the nominal value.", 5 FB (in) "Feedback pin for the fixed output voltage option. For the adjustable version, an external resistive divider is connected to this pin. The internal voltage divider is disabled for the adjustable version.", 6 LBI (in) "Low battery input", 7 SYNC (in) "Input for synchronization to the external clock signal. This input can be connected to an external clock or pulled to GND or VI . When an external clock signal is applied, the device synchronizes to this external clock and (See Datasheet)", 8 EN (in) "Enable. A logic high enables the converter, logic low forces the device into shutdown mode, reducing the supply current to less than 2 µA.", 9 SW (power) "Connect the inductor to this pin. This pin is the switch pin and connected to the drain of the internal power MOSFETS.", 10 PGND (power) "Power ground. Connect all power grounds to this pin."

## TPS62050DGSRG4
designator U?
Buck Adjustable Regulator with 2.7 to 10 V Input and 0.7 to 6 V Output, -40 to 85 degC, 10-Pin MSOP (DGS), Green (RoHS & no Sb/Br); Manufacturer: Texas Instruments; PartNumber: TPS62050DGSRG4; Duty Cycle(Max)(%): 100; Iout(Max)(A): 0.8; Iq(Typ)(mA): 0.012; Rating: Catalog; Regulated Outputs(#): 1; SubFamily: Step-Down Regulator; Switch Current Limit(Typ)(A): 1.4; Synchronous Rectification: TRUE; Vin(Max)(V): 10; Vin(Min)(V): 2.7; Vout(Max)(V): 6; Vout(Min)(V): 0.7; DatasheetVersion: SLVS432E; PackageVersion: revC, Feb-2004; PackageReference: DGS10; PackageDescription: 10-Pin Thin Shrink Small Outline Package 0.5 mm Pitch; Supplier 1: Digi-Key; Supplier Part Number 1: TPS62050DGSRG4-ND; Eco-Plan: Green (RoHS & no Sb/Br); Topology: Buck; Mounting Technology: Surface Mount; Code_JEDEC: MO-187-BA; ComponentLink1Description: Datasheet; ComponentLink1URL: http://www.ti.com/general/docs/lit/getliterature.tsp?genericPartNumber=TPS62050&fileType=pdf; ComponentLink2Description: Package Specification; ComponentLink2URL: http://www.ti.com/litv/pdf/mpds373; ComponentLink3Description: URL Link1; ComponentLink3URL: Samples URL:http://www.ti.com/product/tps54611#samples
footprint DGS10_N (TSSOP, 10-Leads, Body 3x3mm, Pitch 0.5mm, IPC Medium Density)
footprint DGS10_L (TSSOP, 10-Leads, Body 3x3mm, Pitch 0.5mm, IPC High Density)
footprint DGS10_M (TSSOP, 10-Leads, Body 3x3mm, Pitch 0.5mm, IPC Low Density)
pins: 1 VIN (power) "Supply voltage input", 2 LBO (hiz) "Open drain low battery output. Logic low signal indicates a low battery voltage.", 3 GND (power) "Ground", 4 PG (oc) "Power good comparator output. This is an open-drain output. A pullup resistor should be connected between PG and VOUT. The output floats when the output voltage is greater than 95% of the nominal value.", 5 FB (in) "Feedback pin for the fixed output voltage option. For the adjustable version, an external resistive divider is connected to this pin. The internal voltage divider is disabled for the adjustable version.", 6 LBI (in) "Low battery input", 7 SYNC (in) "Input for synchronization to the external clock signal. This input can be connected to an external clock or pulled to GND or VI . When an external clock signal is applied, the device synchronizes to this external clock and (See Datasheet)", 8 EN (in) "Enable. A logic high enables the converter, logic low forces the device into shutdown mode, reducing the supply current to less than 2 µA.", 9 SW (power) "Connect the inductor to this pin. This pin is the switch pin and connected to the drain of the internal power MOSFETS.", 10 PGND (power) "Power ground. Connect all power grounds to this pin."

## TPS62051DGS
designator U?
Buck Adjustable Regulator with 2.7 to 10 V Input and 0.7 to 6 V Output, -40 to 85 degC, 10-Pin MSOP (DGS), Green (RoHS & no Sb/Br); Manufacturer: Texas Instruments; PartNumber: TPS62051DGS; Duty Cycle(Max)(%): 100; Iout(Max)(A): 0.8; Iq(Typ)(mA): 0.012; Rating: Catalog; Regulated Outputs(#): 1; SubFamily: Step-Down Regulator; Switch Current Limit(Typ)(A): 1.4; Synchronous Rectification: TRUE; Vin(Max)(V): 10; Vin(Min)(V): 2.7; Vout(Max)(V): 6; Vout(Min)(V): 0.7; DatasheetVersion: SLVS432E; PackageVersion: revC, Feb-2004; PackageReference: DGS10; PackageDescription: 10-Pin Thin Shrink Small Outline Package 0.5 mm Pitch; Supplier 1: Digi-Key; Supplier Part Number 1: 296-14209-5-ND; Eco-Plan: Green (RoHS & no Sb/Br); Topology: Buck; Mounting Technology: Surface Mount; Code_JEDEC: MO-187-BA; ComponentLink1Description: Datasheet; ComponentLink1URL: http://www.ti.com/general/docs/lit/getliterature.tsp?genericPartNumber=TPS62051&fileType=pdf; ComponentLink2Description: Package Specification; ComponentLink2URL: http://www.ti.com/litv/pdf/mpds373; ComponentLink3Description: URL Link1; ComponentLink3URL: Samples URL:http://www.ti.com/product/tps62051#samples
footprint DGS10_N (TSSOP, 10-Leads, Body 3x3mm, Pitch 0.5mm, IPC Medium Density)
footprint DGS10_L (TSSOP, 10-Leads, Body 3x3mm, Pitch 0.5mm, IPC High Density)
footprint DGS10_M (TSSOP, 10-Leads, Body 3x3mm, Pitch 0.5mm, IPC Low Density)
pins: 1 VIN (power) "Supply voltage input", 2 LBO (hiz) "Open drain low battery output. Logic low signal indicates a low battery voltage.", 3 GND (power) "Ground", 4 PG (oc) "Power good comparator output. This is an open-drain output. A pullup resistor should be connected between PG and VOUT. The output floats when the output voltage is greater than 95% of the nominal value.", 5 FB (in) "Feedback pin for the fixed output voltage option. For the adjustable version, an external resistive divider is connected to this pin. The internal voltage divider is disabled for the adjustable version.", 6 LBI (in) "Low battery input", 7 SYNC (in) "Input for synchronization to the external clock signal. This input can be connected to an external clock or pulled to GND or VI . When an external clock signal is applied, the device synchronizes to this external clock and (See Datasheet)", 8 EN (in) "Enable. A logic high enables the converter, logic low forces the device into shutdown mode, reducing the supply current to less than 2 µA.", 9 SW (power) "Connect the inductor to this pin. This pin is the switch pin and connected to the drain of the internal power MOSFETS.", 10 PGND (power) "Power ground. Connect all power grounds to this pin."

## TPS62051DGSG4
designator U?
Buck Adjustable Regulator with 2.7 to 10 V Input and 0.7 to 6 V Output, -40 to 85 degC, 10-Pin MSOP (DGS), Green (RoHS & no Sb/Br); Manufacturer: Texas Instruments; PartNumber: TPS62051DGSG4; Duty Cycle(Max)(%): 100; Iout(Max)(A): 0.8; Iq(Typ)(mA): 0.012; Rating: Catalog; Regulated Outputs(#): 1; SubFamily: Step-Down Regulator; Switch Current Limit(Typ)(A): 1.4; Synchronous Rectification: TRUE; Vin(Max)(V): 10; Vin(Min)(V): 2.7; Vout(Max)(V): 6; Vout(Min)(V): 0.7; DatasheetVersion: SLVS432E; PackageVersion: revC, Feb-2004; PackageReference: DGS10; PackageDescription: 10-Pin Thin Shrink Small Outline Package 0.5 mm Pitch; Supplier 1: Digi-Key; Supplier Part Number 1: TPS62051DGSG4-ND; Eco-Plan: Green (RoHS & no Sb/Br); Topology: Buck; Mounting Technology: Surface Mount; Code_JEDEC: MO-187-BA; ComponentLink1Description: Datasheet; ComponentLink1URL: http://www.ti.com/general/docs/lit/getliterature.tsp?genericPartNumber=TPS62051&fileType=pdf; ComponentLink2Description: Package Specification; ComponentLink2URL: http://www.ti.com/litv/pdf/mpds373; ComponentLink3Description: URL Link1; ComponentLink3URL: Samples URL:http://www.ti.com/product/tps62051#samples
footprint DGS10_N (TSSOP, 10-Leads, Body 3x3mm, Pitch 0.5mm, IPC Medium Density)
footprint DGS10_L (TSSOP, 10-Leads, Body 3x3mm, Pitch 0.5mm, IPC High Density)
footprint DGS10_M (TSSOP, 10-Leads, Body 3x3mm, Pitch 0.5mm, IPC Low Density)
pins: 1 VIN (power) "Supply voltage input", 2 LBO (hiz) "Open drain low battery output. Logic low signal indicates a low battery voltage.", 3 GND (power) "Ground", 4 PG (oc) "Power good comparator output. This is an open-drain output. A pullup resistor should be connected between PG and VOUT. The output floats when the output voltage is greater than 95% of the nominal value.", 5 FB (in) "Feedback pin for the fixed output voltage option. For the adjustable version, an external resistive divider is connected to this pin. The internal voltage divider is disabled for the adjustable version.", 6 LBI (in) "Low battery input", 7 SYNC (in) "Input for synchronization to the external clock signal. This input can be connected to an external clock or pulled to GND or VI . When an external clock signal is applied, the device synchronizes to this external clock and (See Datasheet)", 8 EN (in) "Enable. A logic high enables the converter, logic low forces the device into shutdown mode, reducing the supply current to less than 2 µA.", 9 SW (power) "Connect the inductor to this pin. This pin is the switch pin and connected to the drain of the internal power MOSFETS.", 10 PGND (power) "Power ground. Connect all power grounds to this pin."